# EAGLE library part A4988 (library Controllers)
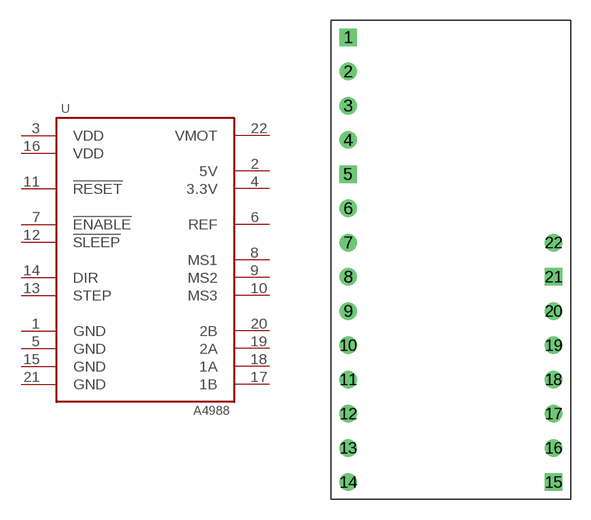
[diagram p2: symbol with the pads of A4988; footprint A4988]

Designator prefix -

## A4988  [A4988]
1  GND  pwr
2  5V  out
3  VDD  pwr
4  3.3V  out
5  GND  pwr
6  REF  in
7  !ENABLE  in
8  MS1  in
9  MS2  in
10  MS3  in
11  !RESET  in
12  !SLEEP  in
13  STEP  in
14  DIR  in
15  GND  pwr
16  VDD  pwr
17  1B  out
18  1A  out
19  2A  out
20  2B  out
21  GND  pwr
22  VMOT  pwr

## Footprint A4988 (pad centres in mm)
drill 0.8 square: 1 -7.62,16.51; 5 -7.62,6.35; 15 7.62,-16.51; 21 7.62,-1.27
drill 0.8: 2 -7.62,13.97; 3 -7.62,11.43; 4 -7.62,8.89; 6 -7.62,3.81; 7 -7.62,1.27; 8 -7.62,-1.27; 9 -7.62,-3.81; 10 -7.62,-6.35; 11 -7.62,-8.89; 12 -7.62,-11.43; 13 -7.62,-13.97; 14 -7.62,-16.51; 16 7.62,-13.97; 17 7.62,-11.43; 18 7.62,-8.89; 19 7.62,-6.35; 20 7.62,-3.81; 22 7.62,1.27